# Altium footprint library ExampleFootprint.PcbLib: 1 footprints
Each footprint in its own frame and in the unit in brackets; x right, y up, seen from the top. Pads: shape width x height; smd on the part's side, far side on the other; paste and mask are expansions set on the pad; w line width, h text height; cw(c..) or ccw(c..) is an arc to the next point about the centre after c.
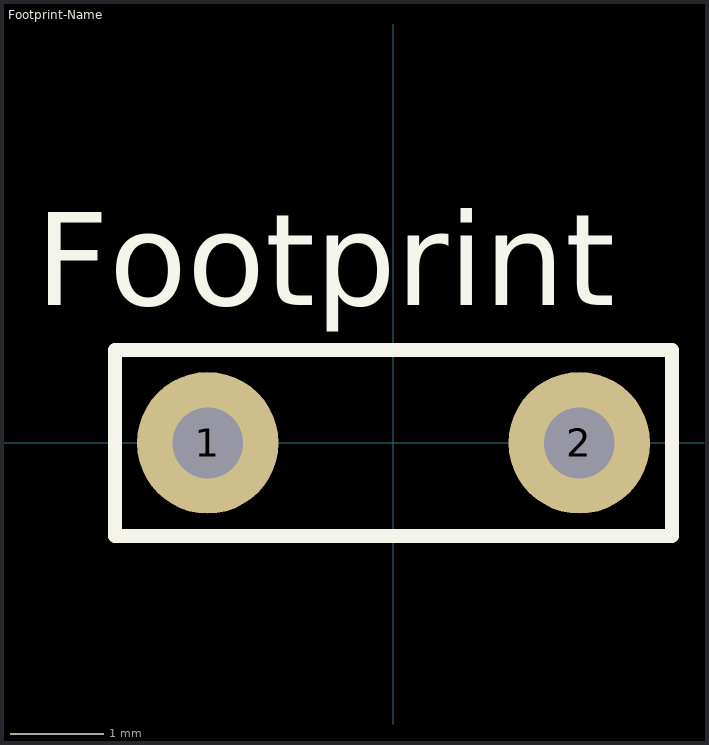
[diagram p0: the footprint, top view; thin cyan lines are the x and y axes]

## Footprint-Name [mil]
height 31.5
pads (2):
  round 60 hole 30: 1(-78.74,0) 2(78.74,0)
Top Overlay:
  lines w5.91: -118.11,-39.37 118.11,-39.37 118.11,39.37 -118.11,39.37 -118.11,-39.37
  text "Footprint" at -151.57,58.39 h39.37